# EAGLE library part RPI2 (library RSC-16)
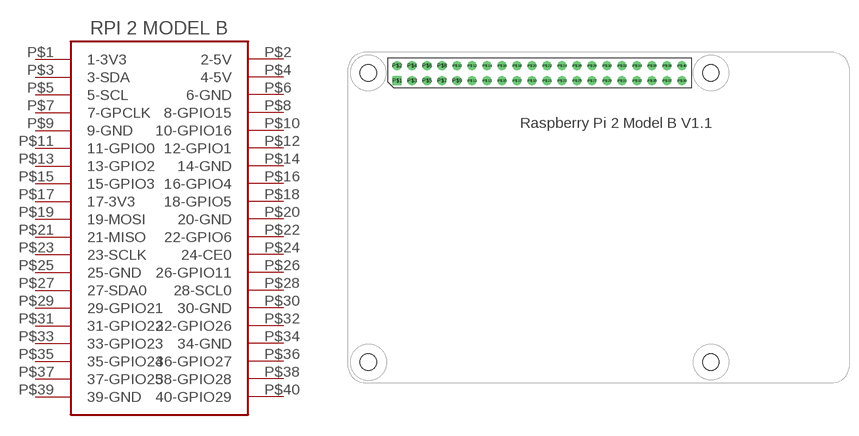
[diagram p4: symbol with the pads of RPI2; footprint RPI2]

Designator prefix -

## RPI2  [RPI2]
P$1  1-3V3
P$2  2-5V
P$3  3-SDA
P$4  4-5V
P$5  5-SCL
P$6  6-GND
P$7  7-GPCLK
P$8  8-GPIO15
P$9  9-GND
P$10  10-GPIO16
P$11  11-GPIO0
P$12  12-GPIO1
P$13  13-GPIO2
P$14  14-GND
P$15  15-GPIO3
P$16  16-GPIO4
P$17  17-3V3
P$18  18-GPIO5
P$19  19-MOSI
P$20  20-GND
P$21  21-MISO
P$22  22-GPIO6
P$23  23-SCLK
P$24  24-CE0
P$25  25-GND
P$26  26-GPIO11
P$27  27-SDA0
P$28  28-SCL0
P$29  29-GPIO21
P$30  30-GND
P$31  31-GPIO22
P$32  32-GPIO26
P$33  33-GPIO23
P$34  34-GND
P$35  35-GPIO24
P$36  36-GPIO27
P$37  37-GPIO25
P$38  38-GPIO28
P$39  39-GND
P$40  40-GPIO29

## Footprint RPI2 (pad centres in mm)
Package for the Raspberry Pi 2 board created by www.elemenet14.com based on documented dimensions and board measurements. For more documentation, please visit http://www.raspberrypi.org/documentation/hardware/raspberrypi/
drill 1.016 square: P$1 8.37,51.23
drill 1.016: P$2 8.357,53.772; P$3 10.897,51.232; P$4 10.897,53.772; P$5 13.437,51.232; P$6 13.437,53.772; P$7 15.977,51.232; P$8 15.977,53.772; P$9 18.517,51.232; P$10 18.517,53.772; P$11 21.057,51.232; P$12 21.057,53.772; P$13 23.597,51.232; P$14 23.597,53.772; P$15 26.137,51.232; P$16 26.137,53.772; P$17 28.677,51.232; P$18 28.677,53.772; P$19 31.217,51.232; P$20 31.217,53.772; P$21 33.757,51.232; P$22 33.757,53.772; P$23 36.297,51.232; P$24 36.297,53.772; P$25 38.837,51.232; P$26 38.837,53.772; P$27 41.377,51.232; P$28 41.377,53.772; P$29 43.917,51.232; P$30 43.917,53.772; P$31 46.457,51.232; P$32 46.457,53.772; P$33 48.997,51.232; P$34 48.997,53.772; P$35 51.537,51.232; P$36 51.537,53.772; P$37 54.077,51.232; P$38 54.077,53.772; P$39 56.617,51.232; P$40 56.617,53.772
hole 2.75 at 3.5,3.5
hole 2.75 at 61.5,3.5
hole 2.75 at 3.5,52.5
hole 2.75 at 61.5,52.5